# Altium footprint library Copy of LARS_409_DC-DC.PCBLIB: 17 footprints (part 2 of 2)
Each footprint in its own frame and in the unit in brackets; x right, y up, seen from the top. Pads: shape width x height; smd on the part's side, far side on the other; paste and mask are expansions set on the pad; w line width, h text height; cw(c..) or ccw(c..) is an arc to the next point about the centre after c.
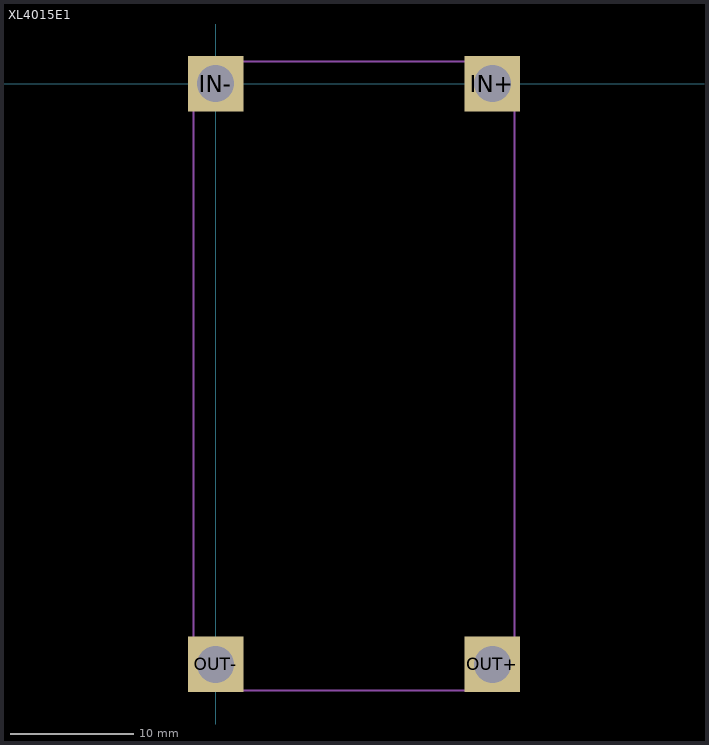
[diagram p1: the footprint, top view; thin cyan lines are the x and y axes]

## XL4015E1 [mm]
pads (4):
  rect 4.5x4.5 / inner round 4.157 / far side rect 4.5x4.5 hole 3: IN+(22.4,0) IN-(0,0) OUT+(22.4,-47) OUT-(0,-47)
tPlace:
  lines w0.152: -1.8,-49.1 24.2,-49.1 24.2,1.8 -1.8,1.8 -1.8,-49.1